# Altium schematic symbol library NET_TIE.SchLib: 1 symbol
Pins are listed as number, name and electrical type; pins without a type are passive.

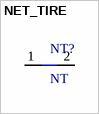
[diagram p0: symbol NET_TIRE]

## NET_TIRE
designator NT?, comment NT
footprint NET TIE
pins: 1, 2